# Altium footprint library WDX-DIY-PCB.PCBLIB: 138 footprints (part 9 of 9)
Each footprint in its own frame and in the unit in brackets; x right, y up, seen from the top. Pads: shape width x height; smd on the part's side, far side on the other; paste and mask are expansions set on the pad; w line width, h text height; cw(c..) or ccw(c..) is an arc to the next point about the centre after c.
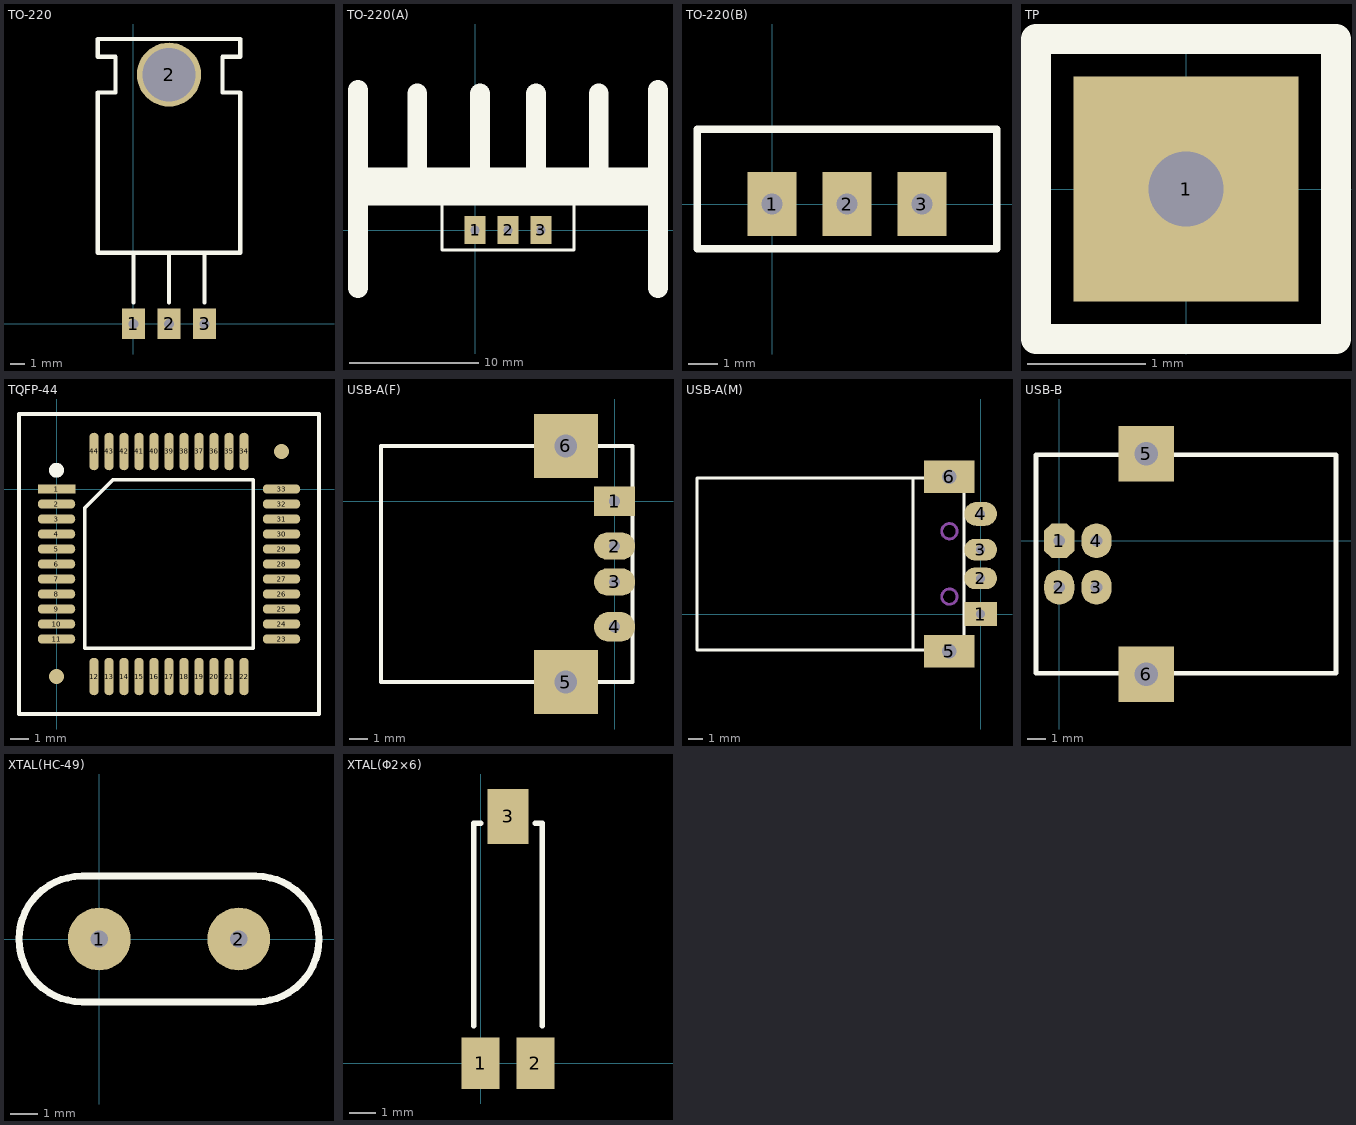
[diagram p8: the footprints below, top view; thin cyan lines are the x and y axes]

## TO-220 [mil]
pads (4):
  rect 65x85 hole 28: 1(0,0) 2(100,0) 3(200,0)
  round 180 hole 150: 2(100,700)
TopOverlay:
  lines w12: 0,60 0,200 ; 100,60 100,200 ; 200,60 200,200 ; -100,200 300,200 300,650 250,650 250,750 300,750 300,800 -100,800 -100,750 -50,750 -50,650 -100,650 -100,200

## TO-220(A) [mil]
pads (3):
  rect 65x85 hole 28: 1(0,0) 2(100,0) 3(200,0)
TopOverlay:
  lines w10: -100,100 -100,-60 300,-60 300,100
  lines w60: -355,-175 -355,425 ; -355,105 555,105 ; -355,160 555,160 ; -175,165 -175,415 ; 15,165 15,415 ; 185,165 185,415 ; 375,165 375,415 ; 555,-175 555,425

## TO-220(B) [mil]
pads (3):
  rect 65x85 hole 28: 1(0,0) 2(100,0) 3(200,0)
TopOverlay:
  lines w10: -100,-60 -100,100 300,100 300,-60 -100,-60

## TP [mil]
pads (1):
  rect 75x75 hole 25: 1(0,0)
TopOverlay:
  lines w10: -50,-50 -50,50 50,50 50,-50 -50,-50

## TQFP-44 [mm]
pads (46):
  rect 2x0.5 smd: 1(0,0)
  oval 2x0.5 smd: 2(0,-0.8) 3(0,-1.6) 4(0,-2.4) 5(0,-3.2) 6(0,-4) 7(0,-4.8) 8(0,-5.6) 9(0,-6.4) 10(0,-7.2) 11(0,-8) 23(12,-8) 24(12,-7.2) 25(12,-6.4) 26(12,-5.6) 27(12,-4.8) 28(12,-4) 29(12,-3.2) 30(12,-2.4) 31(12,-1.6) 32(12,-0.8) 33(12,0)
  oval 0.5x2 smd: 12(2,-10) 13(2.8,-10) 14(3.6,-10) 15(4.4,-10) 16(5.2,-10) 17(6,-10) 18(6.8,-10) 19(7.6,-10) 20(8.4,-10) 21(9.2,-10) 22(10,-10) 34(10,2) 35(9.2,2) 36(8.4,2) 37(7.6,2) 38(6.8,2) 39(6,2) 40(5.2,2) 41(4.4,2) 42(3.6,2) 43(2.8,2) 44(2,2)
  round 0.8 smd: ""(0,-10) ""(12,2)
TopOverlay:
  circle w0.4: c0,1 r0.2
  lines w0.2: -2,-12 14,-12 14,4 -2,4 -2,-12 ; 1.508,-8.492 1.508,-1.016 3.016,0.492 10.492,0.492 10.492,-8.492 1.508,-8.492

## USB-A(F) [mil]
pads (6):
  rect 90x65 hole 25: 1(0,0)
  oval 90x60 hole 25: 2(0,-98.42) 3(0,-177.16)
  oval 90x65 hole 25: 4(0,-275.59)
  rect 140x140 hole 50: 5(-106.69,-396.46) 6(-106.69,120.87)
TopOverlay:
  lines w8: -511.81,-396.46 39.37,-396.46 39.37,120.87 -511.81,120.87 -511.81,-396.46

## USB-A(M) [mil]
pads (6):
  rect 90x65 hole 25: 1(0,0)
  oval 90x60 hole 25: 2(0,98.43) 3(0,177.17)
  oval 90x65 hole 25: 4(0,275.59)
  rect 140x90 hole 40: 5(-86.61,-102.36) 6(-86.61,377.95)
TopOverlay:
  lines w8: -186,-99 -186,375 ; -781,-99 -46,-99 -46,375 -781,375 -781,-99
Mechanical1:
  circle w8: c-86,228 r21.21
  circle w8: c-86,48 r21.09
  lines w5: -133.86,-125.98 -133.86,-78.74 -39.37,-78.74 -39.37,-125.98 -133.86,-125.98 ; -133.86,354.33 -133.86,401.57 -39.37,401.57 -39.37,354.33 -133.86,354.33

## USB-B [mil]
pads (6):
  oct 65x75 hole 25: 1(0,0)
  oval 65x75 hole 25: 2(0,-100) 3(80,-100) 4(80,0)
  rect 120x120 hole 50: 5(187,187) 6(187,-287)
TopOverlay:
  lines w10: -50,-285 190,-285 595,-285 595,185 190,185 -50,185 -50,-285

## XTAL(HC-49) [mil]
pads (2):
  round 90 hole 25: 1(0,0) 2(200,0)
TopOverlay:
  lines w10: -25,-90 cw(c-25,0) -25,90 225,90 cw(c225,0) 225,-90 -25,-90

## XTAL(Φ2×6) [mil]
pads (3):
  rect 55x75 smd: 1(0,0) 2(80,0)
  rect 60x80 smd: 3(40,360)
TopOverlay:
  lines w8: -10,55 -10,350 0,350 ; 80,350 90,350 90,55